# EAGLE library part SERCOM_BUS_RJ45_V_1_0 (library ihpcb-connector)
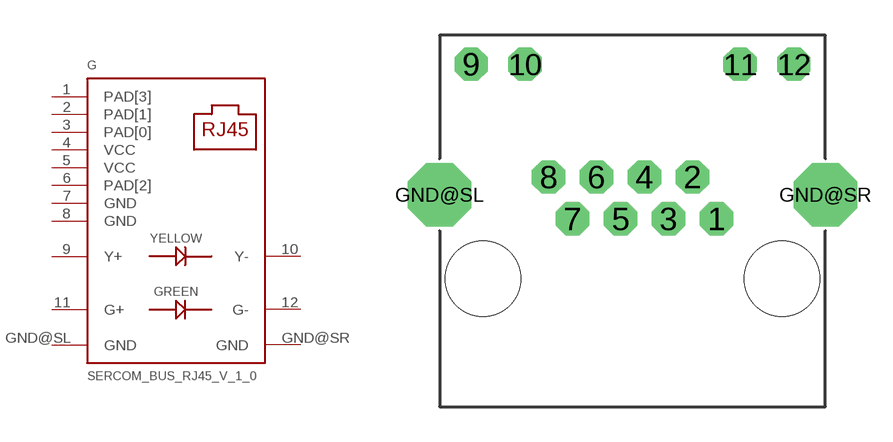
[diagram p1: symbol with the pads of RJ45NETWORKJACK; footprint RJ45NETWORKJACK]

Designator prefix G

## SERCOM_BUS_RJ45_V_1_0  [RJ45NETWORKJACK]
1  PAD[3]
2  PAD[1]
3  PAD[0]
4  VCC
5  VCC
6  PAD[2]
7  GND
8  GND
9  Y+
10  Y-
11  G+
12  G-
GND@SL  GND
GND@SR  GND

## Footprint RJ45NETWORKJACK (pad centres in mm)
drill 0.9 octagon: 1 3.57,2.54; 2 2.55,4.32; 3 1.53,2.54; 4 0.51,4.32; 5 -0.51,2.54; 6 -1.53,4.32; 7 -2.55,2.54; 8 -3.57,4.32; 9 -6.86,9.12; 10 -4.57,9.12; 11 4.57,9.12; 12 6.86,9.12
drill 1.8 octagon: GND@SL -8.2,3.56; GND@SR 8.2,3.56
hole 3.2 at 6.35,0
hole 3.2 at -6.35,0